# Altium footprint library Switch.PcbLib: 5 footprints
Each footprint in its own frame and in the unit in brackets; x right, y up, seen from the top. Pads: shape width x height; smd on the part's side, far side on the other; paste and mask are expansions set on the pad; w line width, h text height; cw(c..) or ccw(c..) is an arc to the next point about the centre after c.
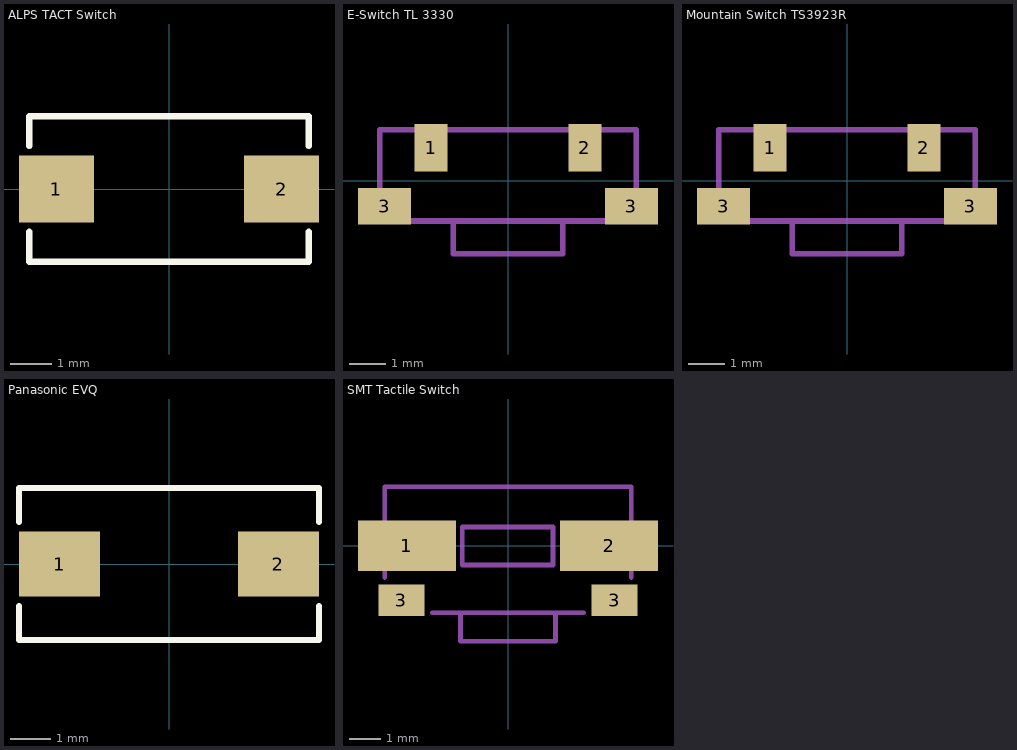
[diagram p0: the footprints below, top view; thin cyan lines are the x and y axes]

## ALPS TACT Switch [mm] "6x3.5mm Alpss Tactile Switch"
height 5
pads (2):
  rect 1.8x1.6 smd: 1(-2.7,0) 2(2.7,0)
Top Overlay:
  lines w0.152: -3.35,-1.025 -3.35,-1.75 3.35,-1.75 3.35,-1.025 ; -3.35,1.033 -3.35,1.75 3.35,1.75 3.35,1.033

## E-Switch TL 3330 [mm] "E-Switch TL 3330 Right Angle Tactile Switch"
height 3.5
pads (4):
  rect 0.9x1.3 smd: 1(-2.1,0.9) 2(2.1,0.9)
  rect 1.45x1 smd: 3(-3.375,-0.7) 3(3.375,-0.7)
Mechanical 1:
  lines w0.152: -1.5,-1.1 -1.5,-2 1.5,-2 1.5,-1.1 ; -3.9,-1.1 -3.9,-0.381 -3.5,-0.381 -3.5,1.397 3.5,1.397 3.5,-0.381 3.9,-0.381 3.9,-1.1 -3.9,-1.1

## Mountain Switch TS3923R [mm] "Mountain Switch TS3923R Right Angle Tactile Switch"
height 3.5
pads (4):
  rect 0.9x1.3 smd: 1(-2.1,0.9) 2(2.1,0.9)
  rect 1.45x1 smd: 3(-3.375,-0.7) 3(3.375,-0.7)
Mechanical 1:
  lines w0.152: -1.5,-1.1 -1.5,-2 1.5,-2 1.5,-1.1 ; -3.9,-1.1 -3.9,-0.381 -3.5,-0.381 -3.5,1.397 3.5,1.397 3.5,-0.381 3.9,-0.381 3.9,-1.1 -3.9,-1.1

## Panasonic EVQ [mm] "Panasonic EVQ Tactile Switch"
height 5
pads (2):
  rect 2x1.6 smd: 1(-2.7,0) 2(2.7,0)
Top Overlay:
  lines w0.152: -3.7,-1.033 -3.7,-1.875 3.7,-1.875 3.7,-1.033 ; -3.7,1.033 -3.7,1.875 3.7,1.875 3.7,1.033

## SMT Tactile Switch [mm] "Generic SMT Tactile Switch (Fits Upright & Right Angle 6 5 - 7mm x 3.5mm body switchs)"
height 5
pads (4):
  rect 3.1x1.6 smd: 1(-3.2,0) 2(3.2,0)
  rect 1.45x1 smd: 3(-3.375,-1.716) 3(3.375,-1.716)
Mechanical 1:
  lines w0.152: -3.9,-1 -3.9,1.875 3.9,1.875 3.9,-1 ; -2.4,-2.116 2.4,-2.116 ; -1.5,-2.116 -1.5,-3.016 1.5,-3.016 1.5,-2.116 ; -1.45,-0.6 1.425,-0.6 1.425,0.6 -1.45,0.6 -1.45,-0.6
3D body: height 2, standoff 0.75, extent -1.5,-3.016 1.5,-0.216
3D body: height 3, standoff 0, extent -3.9,-2.1 3.9,0.7